# Altium footprint library pads_element_1.PcbLib: 1 footprints
Each footprint in its own frame and in the unit in brackets; x right, y up, seen from the top. Pads: shape width x height; smd on the part's side, far side on the other; paste and mask are expansions set on the pad; w line width, h text height; cw(c..) or ccw(c..) is an arc to the next point about the centre after c.
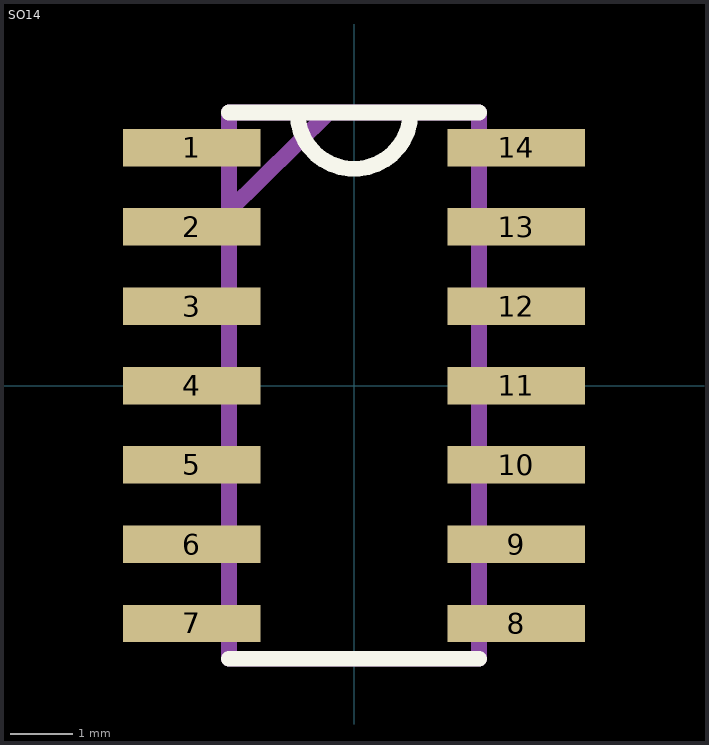
[diagram p0: the footprint, top view; thin cyan lines are the x and y axes]

## SO14 [mm] "Plastic small outline package - 14 leeds"
pads (14):
  rect 2.2x0.6 smd paste+0 mask+0: 1(-2.6,3.81) 2(-2.6,2.54) 3(-2.6,1.27) 4(-2.6,0) 5(-2.6,-1.27) 6(-2.6,-2.54) 7(-2.6,-3.81) 8(2.6,-3.81) 9(2.6,-2.54) 10(2.6,-1.27) 11(2.6,0) 12(2.6,1.27) 13(2.6,2.54) 14(2.6,3.81)
Top Overlay:
  lines w0.254: -2,-4.375 2,-4.375 ; -2,4.375 2,4.375 ; -0.906,4.375 ccw(c0,4.375) 0.906,4.375
Mechanical 13:
  lines w0.254: -2,2.8 -0.4,4.375 ; -2,-4.375 2,-4.375 2,4.375 -2,4.375 -2,-4.375
3D body "User Library-so14-2.STEP": height 1.78, standoff 0.01, extent -3.068,-4.35 3.068,4.35